# EAGLE library part IS61LV256 (library IC)
32Kx8 CMOS SRAM
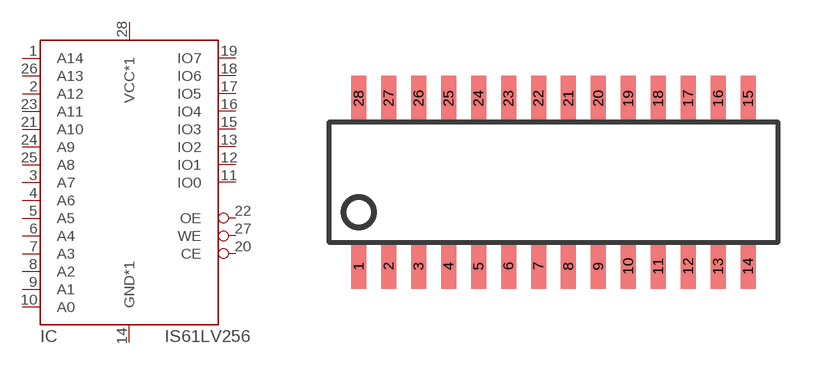
[diagram p27: symbol with the pads of SOJ28-300; footprint SOJ28-300]

Designator prefix IC

## IS61LV256-J  [SOJ28-300]
1  A14
2  A12
3  A7
4  A6
5  A5
6  A4
7  A3
8  A2
9  A1
10  A0
11  IO0
12  IO1
13  IO2
14  GND*1  pwr
15  IO3
16  IO4
17  IO5
18  IO6
19  IO7
20  CE
21  A10
22  OE
23  A11
24  A9
25  A8
26  A13
27  WE
28  VCC*1  pwr

## Footprint SOJ28-300 (pad centres in mm)
300 mil, Plastic SOJ, 28 pin
smd 0.635 x 1.905: 1 -8.89,-3.556; 2 -7.62,-3.556; 3 -6.35,-3.556; 4 -5.08,-3.556; 5 -3.81,-3.556; 6 -2.54,-3.556; 7 -1.27,-3.556; 8 0,-3.556; 9 1.27,-3.556; 10 2.54,-3.556; 11 3.81,-3.556; 12 5.08,-3.556; 13 6.35,-3.556; 14 7.62,-3.556; 15 7.62,3.556; 16 6.35,3.556; 17 5.08,3.556; 18 3.81,3.556; 19 2.54,3.556; 20 1.27,3.556; 21 0,3.556; 22 -1.27,3.556; 23 -2.54,3.556; 24 -3.81,3.556; 25 -5.08,3.556; 26 -6.35,3.556; 27 -7.62,3.556; 28 -8.89,3.556